# Altium schematic symbol library DIODE_SCHOTKY-SO8.SchLib: 1 symbol
Pins are listed as number, name and electrical type; pins without a type are passive.

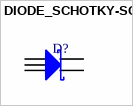
[diagram p0: symbol DIODE_SCHOTKY-SO8]

## DIODE_SCHOTKY-SO8
designator D?  (value not drawn)
pins: 1 A, 2 A, 3 A, 5 K, 5 K